# Altium footprint library WR-TBL_Rising Cage Clamp_6.35mm.PcbLib: 2 footprints
Each footprint in its own frame and in the unit in brackets; x right, y up, seen from the top. Pads: shape width x height; smd on the part's side, far side on the other; paste and mask are expansions set on the pad; w line width, h text height; cw(c..) or ccw(c..) is an arc to the next point about the centre after c.
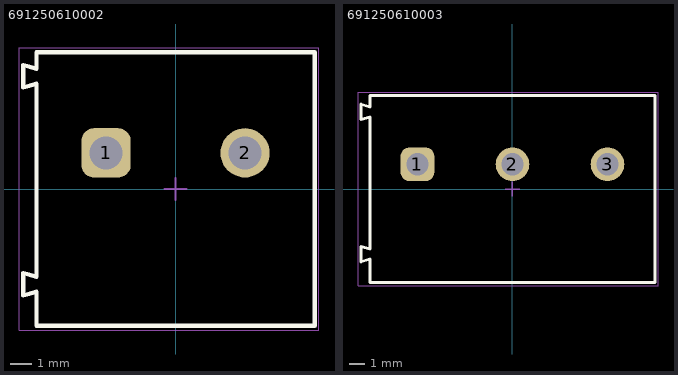
[diagram p0: the footprints below, top view; thin cyan lines are the x and y axes]

## 691250610002 [mm] "Serie 2506 - 6.35 mm _ 2 pins"
height 21.5
pads (2):
  rrect50% 2.25x2.25 hole 1.5: 1(-3.175,1.65)
  round 2.25 hole 1.5: 2(3.175,1.65)
Top Overlay:
  lines w0.2: -6.95,-4.865 -6.95,-3.835 -6.35,-4.01 -6.35,4.81 -6.95,4.635 -6.95,5.665 -6.35,5.49 -6.35,6.25 6.35,6.25 6.35,-6.25 -6.35,-6.25 -6.35,-4.69 -6.95,-4.865
Top Assembly:
  lines w0.1: -6.95,-4.865 -6.35,-4.69 -6.35,-6.25 6.35,-6.25 6.35,6.25 -6.35,6.25 -6.35,5.49 -6.95,5.665 -6.95,4.635 -6.35,4.81 -6.35,-4.01 -6.95,-3.835 -6.95,-4.865
Top Designator:
  text ".Designator" at -3.647,-0.357 h1
Top 3D Body:
  lines w0.1: -6.95,-4.865 -6.95,-3.835 -6.35,-4.01 -6.35,4.81 -6.95,4.635 -6.95,5.665 -6.35,5.49 -6.35,6.25 6.35,6.25 6.35,-6.25 -6.35,-6.25 -6.35,-4.69 -6.95,-4.865
Top Courtyard:
  lines w0.05: -7.15,-6.45 -7.15,6.45 6.55,6.45 6.55,-6.45 -7.15,-6.45
Top Component Center:
  lines w0.1: -0.5,0 0.5,0 ; 0,-0.5 0,0.5
3D body "691250610002.stp": height 21.6, standoff -4.9, extent -6.95,-6.25 6.35,6.25

## 691250610003 [mm] "Serie 2506 - 6.35 mm _ 3 pins"
height 21.5
pads (3):
  rrect50% 2.25x2.25 hole 1.5: 1(-6.35,1.65)
  round 2.25 hole 1.5: 2(0,1.65) 3(6.35,1.65)
Top Overlay:
  lines w0.2: -10.125,-4.865 -10.125,-3.835 -9.525,-4.01 -9.525,4.81 -10.125,4.635 -10.125,5.665 -9.525,5.49 -9.525,6.25 9.525,6.25 9.525,-6.25 -9.525,-6.25 -9.525,-4.69 -10.125,-4.865
Top Assembly:
  lines w0.1: -10.125,-4.865 -9.525,-4.69 -9.525,-6.25 9.525,-6.25 9.525,6.25 -9.525,6.25 -9.525,5.49 -10.125,5.665 -10.125,4.635 -9.525,4.81 -9.525,-4.01 -10.125,-3.835 -10.125,-4.865
Top Designator:
  text ".Designator" at -3.647,-0.357 h1
Top 3D Body:
  lines w0.1: -10.125,-4.865 -10.125,-3.835 -9.525,-4.01 -9.525,4.81 -10.125,4.635 -10.125,5.665 -9.525,5.49 -9.525,6.25 9.525,6.25 9.525,-6.25 -9.525,-6.25 -9.525,-4.69 -10.125,-4.865
Top Courtyard:
  lines w0.05: -10.325,-6.45 -10.325,6.45 9.725,6.45 9.725,-6.45 -10.325,-6.45
Top Component Center:
  lines w0.1: -0.5,0 0.5,0 ; 0,-0.5 0,0.5
3D body "691250610003.stp": height 21.6, standoff -4.9, extent -10.125,-6.25 9.525,6.25